# EAGLE library part MICRO-SD-ADAPTOR (library micromouse-timer)
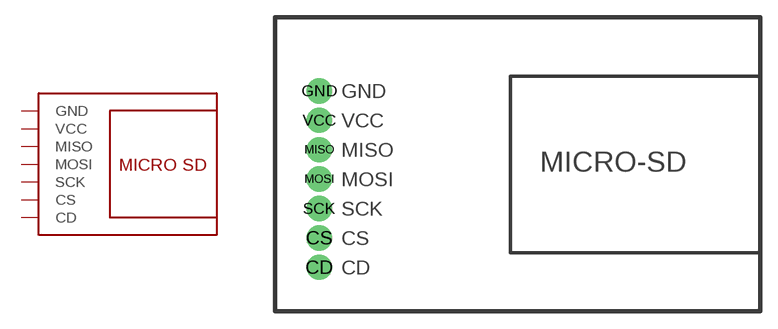
[diagram p8: symbol with the pads of MICRO-SD-ADAPTOR; footprint MICRO-SD-ADAPTOR]

Designator prefix M

## MICRO-SD-ADAPTOR  [MICRO-SD-ADAPTOR]
CD  CD
CS  CS
GND  GND
MISO  MISO
MOSI  MOSI
SCK  SCK
VCC  VCC

## Footprint MICRO-SD-ADAPTOR (pad centres in mm)
drill 1 pad 2.184: CD -7.62,-8.89; CS -7.62,-6.35; GND -7.62,6.35; MISO -7.62,1.27; MOSI -7.62,-1.27; SCK -7.62,-3.81; VCC -7.62,3.81